# Altium footprint library FF_pcb_lib.PcbLib: 102 footprints (part 2 of 7)
Each footprint in its own frame and in the unit in brackets; x right, y up, seen from the top. Pads: shape width x height; smd on the part's side, far side on the other; paste and mask are expansions set on the pad; w line width, h text height; cw(c..) or ccw(c..) is an arc to the next point about the centre after c.
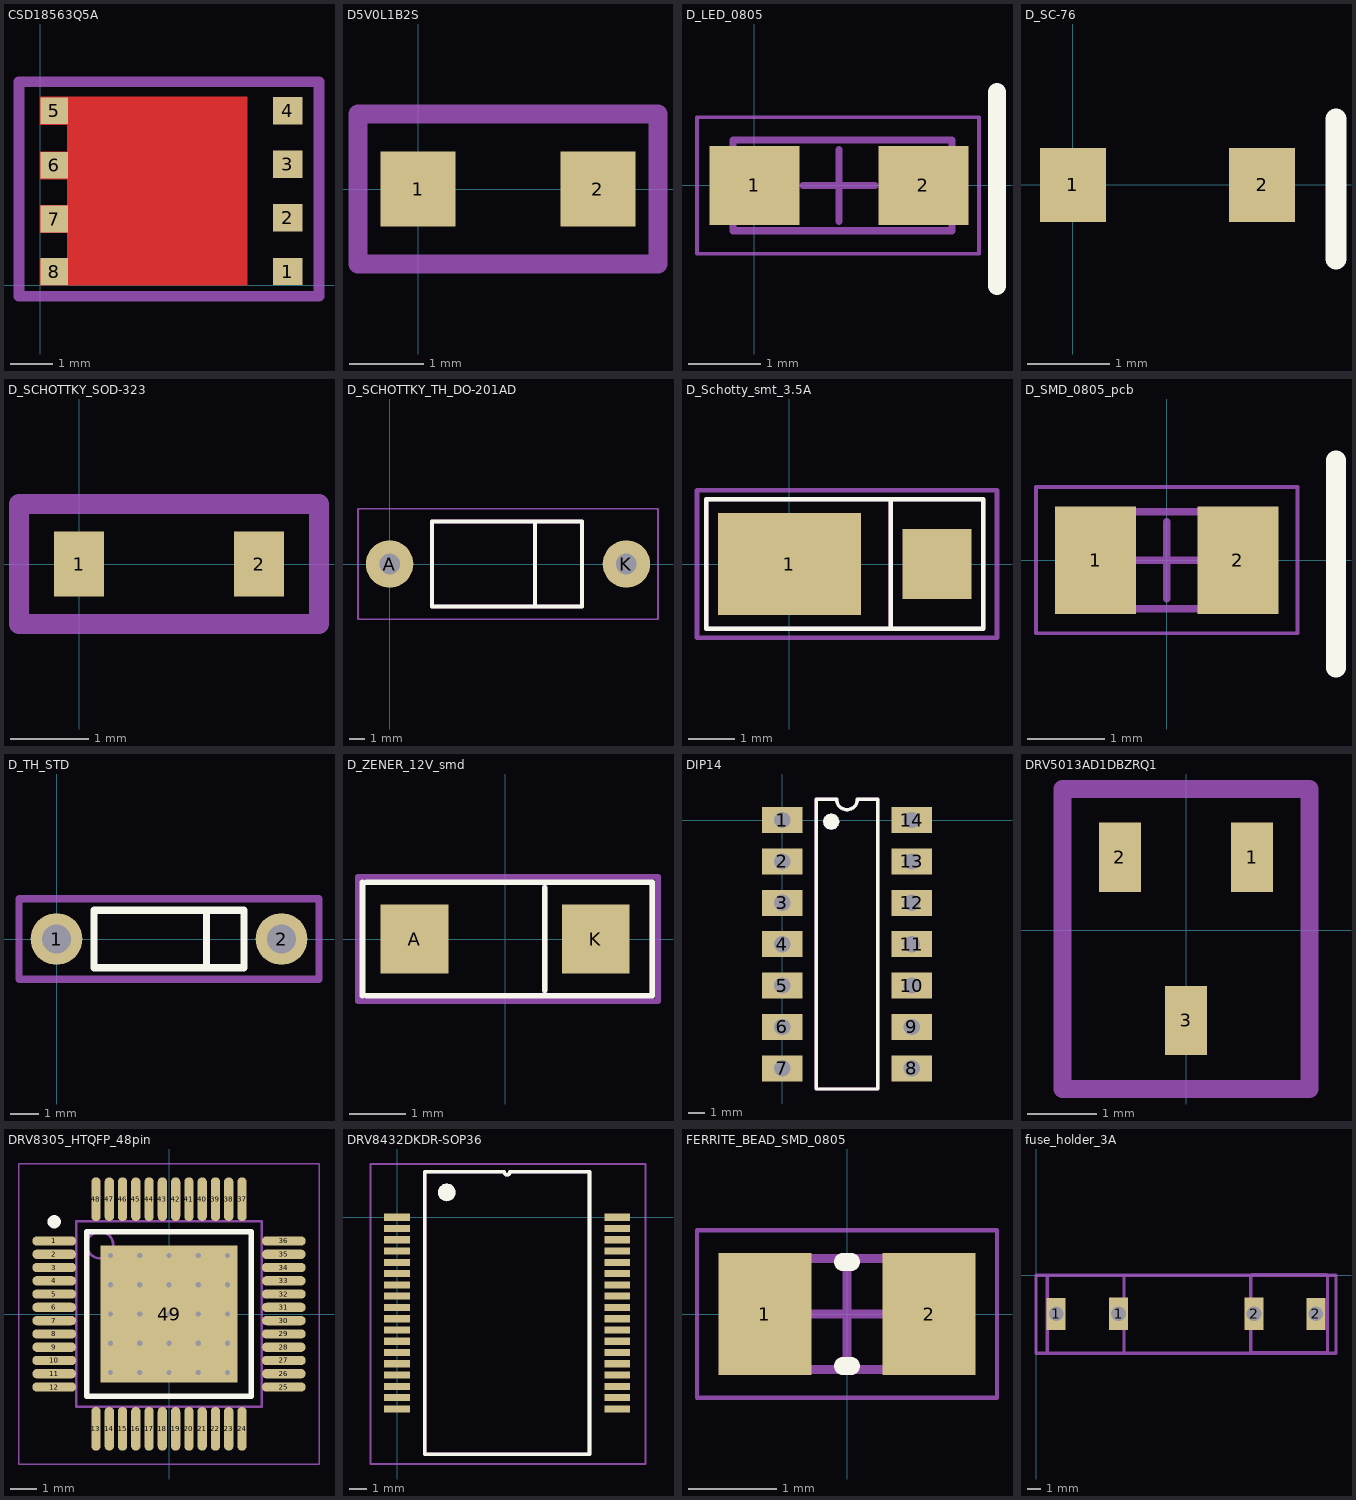
[diagram p1: the footprints below, top view; thin cyan lines are the x and y axes]

## CSD18563Q5A [mm]
pads (8):
  rect 0.7x0.65 smd: 1(5.867,0.33) 2(5.867,1.6) 3(5.867,2.87) 4(5.867,4.14)
  rect 0.65x0.63 smd: 5(0.33,4.14) 6(0.33,2.845) 7(0.33,1.575) 8(0.33,0.33)
Top Layer:
  region: 0,0 4.902,0 4.902,4.47 0,4.47 0,3.81 0.635,3.81 0.635,3.175 0,3.175 0,2.515 0.635,2.515 0.635,1.905 0,1.905 0,1.245 0.635,1.245 0.635,0.635 0,0.635
Mechanical 1:
  region: -0.229,1.143
Courtyard:
  lines w0.254: -0.508,-0.254 6.604,-0.254 6.604,4.826 -0.508,4.826 -0.508,-0.254
3D body: height 2.5, standoff 0, extent 0.508,0 5.588,4.572

## D5V0L1B2S [mm]
pads (2):
  rect 1x1 smd: 1(0,0) 2(2.4,0)
Courtyard:
  lines w0.254: -0.8,-1 -0.8,1 3.2,1 3.2,-1 -0.8,-1
3D body: height 1.5, standoff 0, extent 0,-0.9 2.4,1

## D_LED_0805 [mm]
pads (2):
  rect 1.25x1.1 smd: 1(0,0) 2(2.35,0)
Top Overlay:
  lines w0.254: 3.375,-1.4 3.375,1.3
Mechanical 13:
  lines w0.1: -0.3,-0.63 -0.3,0.63 2.75,0.63 2.75,-0.63 -0.3,-0.63
Mechanical 15:
  lines w0.05: -0.8,-0.95 -0.8,0.95 3.125,0.95 3.125,-0.95 -0.8,-0.95
  lines w0.1: 0.675,0 1.675,0 ; 1.175,-0.5 1.175,0.5
3D body: height 1, standoff 0, extent 0.3,-0.63 2.05,0.63
3D body: height 0.5, standoff 0, extent -0.3,-0.63 0.3,0.63
3D body: height 0.5, standoff 0, extent 2.05,-0.63 2.65,0.63

## D_SC-76 [mm]
pads (2):
  rect 0.8x0.9 smd: 1(0,0) 2(2.3,0)
Top Overlay:
  lines w0.254: 3.2,-0.9 3.2,0.8
3D body: height 0.8, standoff 0, extent 0.2,-0.7 2.1,0.7

## D_SCHOTTKY_SOD-323 [mm]
pads (2):
  rect 0.63x0.83 smd mask+0.08: 1(0,0) 2(2.286,0)
Courtyard:
  lines w0.254: -0.762,-0.762 -0.762,0.508 -0.762,0.762 -0.508,0.762 3.048,0.762 3.048,-0.762 -0.762,-0.762
3D body: height 1, standoff 0, extent 0.254,-0.508 2.032,0.508

## D_SCHOTTKY_TH_DO-201AD [mm]
pads (2):
  round 3 hole 1.3: A(0,0) K(15,0)
Top Overlay:
  lines w0.254: 9.2,-2.7 12.2,-2.7 12.2,2.7 9.2,2.7 ; 9.2,-2.7 2.7,-2.7 2.7,0 2.7,2.7 9.2,2.7 ; 9.2,-2.7 9.2,2.7
Mechanical 13:
  lines w0.254: 9.2,-2.7 9.2,2.7 ; 9.2,-2.7 2.7,-2.7 2.7,0 2.7,2.7 9.2,2.7 ; 9.2,-2.7 12.2,-2.7 12.2,2.7 9.2,2.7
  text "'.Designator'" at 3.8,-0.1 h0.7
Mechanical 15:
  lines w0.1: -2,-3.5 17,-3.5 17,3.5 -2,3.5 -2,-3.5
3D body: height 5.3, standoff 0, extent 2.75,-2.65 12.25,2.65

## D_Schotty_smt_3.5A [mm]
pads (2):
  rect 3.1x2.2 smd: 1(0,0)
  rect 1.5x1.52 smd: ""(3.2,0)
Top Overlay:
  lines w0.1: 2.2,-1.4 2.2,1.4 ; -1.8,-1.4 -1.8,1.4 4.2,1.4 4.2,-1.4 -1.8,-1.4
Mechanical 13:
  lines w0.1: 2.2,-1.4 2.2,1.4 ; -1.8,-1.4 4.2,-1.4 4.2,1.4 -1.8,1.4 -1.8,-1.4
Mechanical 15:
  lines w0.1: -2,-1.6 -2,1.6 4.5,1.6 4.5,-1.6 -2,-1.6
3D body: height 1, standoff 0.1, extent -0.4,-1 3.8,1.1

## D_SMD_0805_pcb [mm]
height 0.8
pads (2):
  rect 1.05x1.4 smd: 1(-0.925,0) 2(0.925,0)
Top Overlay:
  lines w0.254: 2.2,-1.4 2.2,1.3
Mechanical 13:
  lines w0.1: -1.075,-0.63 1.075,-0.63 1.075,0.63 -1.075,0.63 -1.075,-0.63
Mechanical 15:
  lines w0.05: -1.7,-0.95 1.7,-0.95 1.7,0.95 -1.7,0.95 -1.7,-0.95
  lines w0.1: -0.5,0 0.5,0 ; 0,-0.5 0,0.5
3D body: height 0.8, standoff 0, extent 0.575,-0.63 1.075,0.63
3D body: height 0.8, standoff 0, extent -1.075,-0.63 -0.575,0.63
3D body: height 0.8, standoff 0, extent -0.575,-0.63 0.575,0.63

## D_TH_STD [mm]
pads (2):
  round 1.8 hole 1: 1(0,0) 2(7.8,0)
Top Overlay:
  lines w0.254: 5.2,-0.9 5.2,0.9 ; 1.3,-1 1.3,1 3.9,1 6.5,1 6.5,-1 1.3,-1
Courtyard:
  lines w0.254: -1.3,-1.4 9.1,-1.4 9.1,1.4 -1.3,1.4 -1.3,-1.4

## D_ZENER_12V_smd [mm]
pads (2):
  rect 1.2x1.22 smd: A(-1.6,0) K(1.6,0)
Top Overlay:
  lines w0.1: -2.52,-1 -2.52,0 -2.52,1 ; -2.445,-1 2.6,-1 2.6,1 -2.445,1 ; 0.7,-0.9 0.7,0.9
Mechanical 13:
  lines w0.1: 0.7,-1 0.7,1 ; -2.525,-1 2.6,-1 2.6,1 -2.525,1 -2.525,0 -2.525,-1
Mechanical 15:
  lines w0.1: -2.6,-1.1 2.7,-1.1 2.7,1.1 -2.6,1.1 -2.6,-1.1
3D body: height 1.17, standoff 0.1, extent -1.6,-0.8 1.6,0.8

## DIP14 [mm]
pads (16):
  rect 2.5x1.6 hole 1: 1(0,0) 2(0,-2.54) 3(0,-5.08) 4(0,-7.62) 5(0,-10.16) 6(0,-12.7) 7(0,-15.24) 8(7.94,-15.24) 9(7.94,-12.7) 10(7.94,-10.16) 11(7.94,-7.62) 12(7.94,-5.08) 13(7.94,-2.54) 14(7.94,0)
  round 1 on Top Overlay: ""(3,-0.1)
  round 1 on Mech29: ""(3,-0.1)
Top Overlay:
  lines w0.2: 2.085,-16.51 5.855,-16.51 5.855,1.27 4.605,1.27 cw(c3.97,1.27) 3.335,1.27 2.085,1.27 2.085,-16.51
Mechanical 29:
  lines w0.2: 2.085,-16.51 2.085,1.27 3.335,1.27 ccw(c3.97,1.27) 4.605,1.27 5.855,1.27 5.855,-16.51 2.085,-16.51
  text "'.Designator'" at 2.5,-7 h0.7
3D body: height 5.08, standoff 0.51, extent 2.1,-16.4 5.8,1.2

## DRV5013AD1DBZRQ1 [mm]
pads (3):
  rect 0.6x1 smd: 1(0.95,1.05) 2(-0.95,1.05) 3(0,-1.3)
Courtyard:
  lines w0.254: -1.778,-2.286 1.778,-2.286 1.778,2.032 -1.778,2.032 -1.778,-2.286
3D body "SOT23-3.step": height 1.3, standoff 0, extent -1.45,-1.575 1.45,1.225

## DRV8305_HTQFP_48pin [mm] "DRV8305 three phase MOSFET gate driver"
height 1.2
pads (49):
  oval 1.65x0.35 smd: 1(-4.325,2.75) 2(-4.325,2.25) 3(-4.325,1.75) 4(-4.325,1.25) 5(-4.325,0.75) 6(-4.325,0.25) 7(-4.325,-0.25) 8(-4.325,-0.75) 9(-4.325,-1.25) 10(-4.325,-1.75) 11(-4.325,-2.25) 12(-4.325,-2.75) 25(4.325,-2.75) 26(4.325,-2.25) 27(4.325,-1.75) 28(4.325,-1.25) 29(4.325,-0.75) 30(4.325,-0.25) 31(4.325,0.25) 32(4.325,0.75) 33(4.325,1.25) 34(4.325,1.75) 35(4.325,2.25) 36(4.325,2.75)
  oval 0.35x1.65 smd: 13(-2.75,-4.325) 14(-2.25,-4.325) 15(-1.75,-4.325) 16(-1.25,-4.325) 17(-0.75,-4.325) 18(-0.25,-4.325) 19(0.25,-4.325) 20(0.75,-4.325) 21(1.25,-4.325) 22(1.75,-4.325) 23(2.25,-4.325) 24(2.75,-4.325) 37(2.75,4.325) 38(2.25,4.325) 39(1.75,4.325) 40(1.25,4.325) 41(0.75,4.325) 42(0.25,4.325) 43(-0.25,4.325) 44(-0.75,4.325) 45(-1.25,4.325) 46(-1.75,4.325) 47(-2.25,4.325) 48(-2.75,4.325)
  rect 5.17x5.17 smd: 49(0,0)
via -2.2,2.2 diameter 0.5 hole 0.2
via -1.1,2.2 diameter 0.5 hole 0.2
via 0,2.2 diameter 0.5 hole 0.2
via 1.1,2.2 diameter 0.5 hole 0.2
via 2.2,2.2 diameter 0.5 hole 0.2
via -2.2,1.1 diameter 0.5 hole 0.2
via -1.1,1.1 diameter 0.5 hole 0.2
via 0,1.1 diameter 0.5 hole 0.2
via 1.1,1.1 diameter 0.5 hole 0.2
via 2.2,1.1 diameter 0.5 hole 0.2
via -2.2,0 diameter 0.5 hole 0.2
via -1.1,0 diameter 0.5 hole 0.2
via 0,0 diameter 0.5 hole 0.2
via 1.1,0 diameter 0.5 hole 0.2
via 2.2,0 diameter 0.5 hole 0.2
via -2.2,-1.1 diameter 0.5 hole 0.2
via -1.1,-1.1 diameter 0.5 hole 0.2
via 0,-1.1 diameter 0.5 hole 0.2
via 1.1,-1.1 diameter 0.5 hole 0.2
via 2.2,-1.1 diameter 0.5 hole 0.2
via -2.2,-2.2 diameter 0.5 hole 0.2
via -1.1,-2.2 diameter 0.5 hole 0.2
via 0,-2.2 diameter 0.5 hole 0.2
via 1.1,-2.2 diameter 0.5 hole 0.2
via 2.2,-2.2 diameter 0.5 hole 0.2
Top Overlay:
  circle w0.25: c-4.325,3.475 r0.125
  lines w0.2: -3.1,-3.1 -3.1,3.1 3.1,3.1 3.1,-3.1 -3.1,-3.1
Mechanical 13:
  circle w0.1: c-2.6,2.6 r0.5
  lines w0.1: -3.5,-3.5 -3.5,3.5 3.5,3.5 3.5,-3.5 -3.5,-3.5
Mechanical 15:
  lines w0.05: -5.65,-5.65 -5.65,5.65 5.65,5.65 5.65,-5.65 -5.65,-5.65
  lines w0.1: -0.5,0 0.5,0 ; 0,-0.5 0,0.5
3D body: height 1.2, standoff 0.1, extent -3.5,-3.5 3.5,3.5

## DRV8432DKDR-SOP36 [mm]
pads (38):
  rect 1.45x0.4 smd: 1(0,0) 2(0,-0.635) 3(0,-1.27) 4(0,-1.905) 5(0,-2.54) 6(0,-3.175) 7(0,-3.81) 8(0,-4.445) 9(0,-5.08) 10(0,-5.715) 11(0,-6.35) 12(0,-6.985) 13(0,-7.62) 14(0,-8.255) 15(0,-8.89) 16(0,-9.525) 17(0,-10.16) 18(0,-10.795) 19(12.4,-10.795) 20(12.4,-10.16) 21(12.4,-9.525) 22(12.4,-8.89) 23(12.4,-8.255) 24(12.4,-7.62) 25(12.4,-6.985) 26(12.4,-6.35) 27(12.4,-5.715) 28(12.4,-5.08) 29(12.4,-4.445) 30(12.4,-3.81) 31(12.4,-3.175) 32(12.4,-2.54) 33(12.4,-1.905) 34(12.4,-1.27) 35(12.4,-0.635) 36(12.4,0)
  round 1 on Top Overlay: ""(2.8,1.4)
  round 1 on Mech13: ""(2.8,1.4)
Top Overlay:
  lines w0.2: 1.56,-13.347 10.84,-13.347 10.84,2.552 6.359,2.552 cw(c6.2,2.552) 6.041,2.552 1.56,2.552 1.56,-13.347
Mechanical 13:
  lines w0.2: 1.56,-13.347 10.84,-13.347 10.84,2.552 6.359,2.552 cw(c6.2,2.552) 6.041,2.552 1.56,2.552 1.56,-13.347
  text "'.Designator'" at 2.3,-5.4 h0.7
Mechanical 15:
  lines w0.1: -1.5,-13.9 -1.1,-13.9 14,-13.9 14,3 -1.5,3 -1.5,-13.9
3D body: height 2.6, standoff 0.1, extent 1.7,-13.3 10.8,2.4

## FERRITE_BEAD_SMD_0805 [mm] "SMD ferrite bead"
height 0.9
pads (2):
  rect 1.05x1.38 smd: 1(-0.93,0) 2(0.93,0)
Top Overlay:
  lines w0.2: -0.05,-0.59 0.05,-0.59 ; -0.05,0.59 0.05,0.59
Mechanical 13:
  lines w0.1: -1.075,-0.63 1.075,-0.63 1.075,0.63 -1.075,0.63 -1.075,-0.63
Mechanical 15:
  lines w0.05: -1.7,-0.95 1.7,-0.95 1.7,0.95 -1.7,0.95 -1.7,-0.95
  lines w0.1: -0.5,0 0.5,0 ; 0,-0.5 0,0.5
3D body: height 0.9, standoff 0, extent 0.575,-0.63 1.075,0.63
3D body: height 0.9, standoff 0, extent -1.075,-0.63 -0.575,0.63
3D body: height 0.9, standoff 0, extent -0.575,-0.63 0.575,0.63

## fuse_holder_3A [mm]
pads (4):
  rect 1.4x2.4 hole 1.1 square: 1(1.5,-2.88) 1(6.15,-2.875) 2(16.25,-2.875) 2(20.85,-2.88)
Board:
  lines w0.254: 0,-0.04 0,-5.8 22.35,-5.8 ; 0,0 22.35,0 22.35,-5.76
Courtyard:
  lines w0.254: 0.843,-0.04 0.843,-5.8 6.558,-5.8 6.558,-0.04 6.518,0 0.9,0 ; 16.005,-0.02 16.005,-5.78 21.72,-5.78 21.72,-0.02 ; 16.062,0.02 21.68,0.02